# Altium schematic symbol library STM32F051K8U6.Schlib: 1 symbol
Pins are listed as number, name and electrical type; pins without a type are passive.

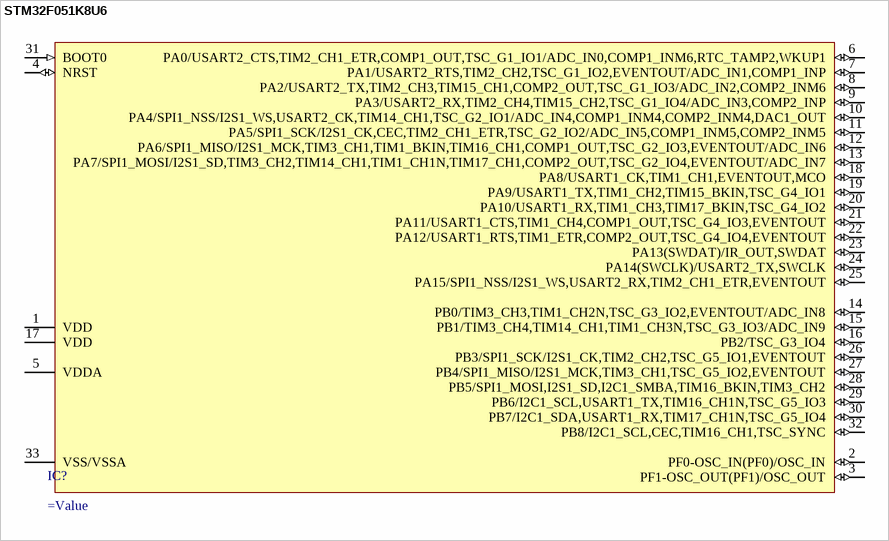
[diagram p0: symbol STM32F051K8U6]

## STM32F051K8U6
designator IC?
=Desciption
pins: 1 VDD (power) "Digital power supply", 2 PF0-OSC_IN(PF0)/OSC_IN (io), 3 PF1-OSC_OUT(PF1)/OSC_OUT (io), 4 NRST (io) "Device reset input / internal reset output (active low)", 5 VDDA (power) "Analog power supply", 6 PA0/USART2_CTS,TIM2_CH1_ETR,COMP1_OUT,TSC_G1_IO1/ADC_IN0,COMP1_INM6,RTC_TAMP2,WKUP1 (io), 7 PA1/USART2_RTS,TIM2_CH2,TSC_G1_IO2,EVENTOUT/ADC_IN1,COMP1_INP (io), 8 PA2/USART2_TX,TIM2_CH3,TIM15_CH1,COMP2_OUT,TSC_G1_IO3/ADC_IN2,COMP2_INM6 (io), 9 PA3/USART2_RX,TIM2_CH4,TIM15_CH2,TSC_G1_IO4/ADC_IN3,COMP2_INP (io), 10 PA4/SPI1_NSS/I2S1_WS,USART2_CK,TIM14_CH1,TSC_G2_IO1/ADC_IN4,COMP1_INM4,COMP2_INM4,DAC1_OUT (io), 11 PA5/SPI1_SCK/I2S1_CK,CEC,TIM2_CH1_ETR,TSC_G2_IO2/ADC_IN5,COMP1_INM5,COMP2_INM5 (io), 12 PA6/SPI1_MISO/I2S1_MCK,TIM3_CH1,TIM1_BKIN,TIM16_CH1,COMP1_OUT,TSC_G2_IO3,EVENTOUT/ADC_IN6 (io), 13 PA7/SPI1_MOSI/I2S1_SD,TIM3_CH2,TIM14_CH1,TIM1_CH1N,TIM17_CH1,COMP2_OUT,TSC_G2_IO4,EVENTOUT/ADC_IN7 (io), 14 PB0/TIM3_CH3,TIM1_CH2N,TSC_G3_IO2,EVENTOUT/ADC_IN8 (io), 15 PB1/TIM3_CH4,TIM14_CH1,TIM1_CH3N,TSC_G3_IO3/ADC_IN9 (io), 16 PB2/TSC_G3_IO4 (io), 17 VDD (power) "Digital power supply", 18 PA8/USART1_CK,TIM1_CH1,EVENTOUT,MCO (io), 19 PA9/USART1_TX,TIM1_CH2,TIM15_BKIN,TSC_G4_IO1 (io), 20 PA10/USART1_RX,TIM1_CH3,TIM17_BKIN,TSC_G4_IO2 (io), 21 PA11/USART1_CTS,TIM1_CH4,COMP1_OUT,TSC_G4_IO3,EVENTOUT (io), 22 PA12/USART1_RTS,TIM1_ETR,COMP2_OUT,TSC_G4_IO4,EVENTOUT (io), 23 PA13(SWDAT)/IR_OUT,SWDAT (io), 24 PA14(SWCLK)/USART2_TX,SWCLK (io), 25 PA15/SPI1_NSS/I2S1_WS,USART2_RX,TIM2_CH1_ETR,EVENTOUT (io), 26 PB3/SPI1_SCK/I2S1_CK,TIM2_CH2,TSC_G5_IO1,EVENTOUT (io), 27 PB4/SPI1_MISO/I2S1_MCK,TIM3_CH1,TSC_G5_IO2,EVENTOUT (io), 28 PB5/SPI1_MOSI,I2S1_SD,I2C1_SMBA,TIM16_BKIN,TIM3_CH2 (io), 29 PB6/I2C1_SCL,USART1_TX,TIM16_CH1N,TSC_G5_IO3 (io), 30 PB7/I2C1_SDA,USART1_RX,TIM17_CH1N,TSC_G5_IO4 (io), 31 BOOT0 (in) "Boot memory selection", 32 PB8/I2C1_SCL,CEC,TIM16_CH1,TSC_SYNC (io), 33 VSS/VSSA (power)